# EAGLE library part GMSTBV2.5-7-* (library Phoenix_GICV-GF)
Connector 7,62 mm, 400V 12A, 7 polig, Version GF mit Befestigungsblock!
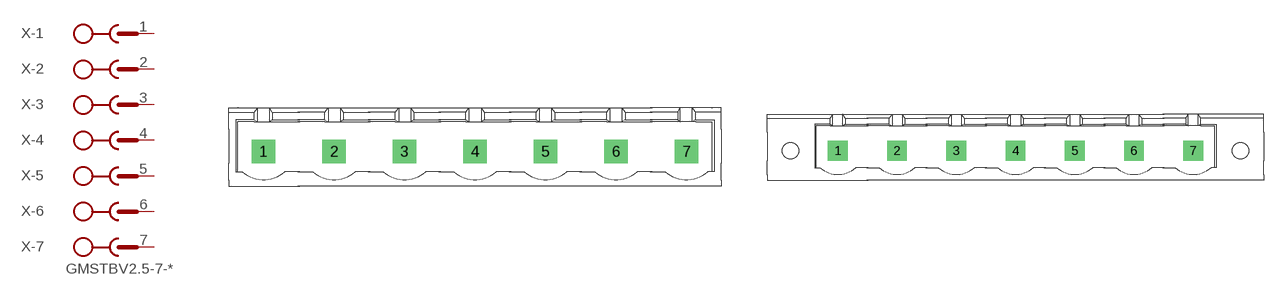
[diagram p11: symbol with the pads of GMSTBV2.5-7-G; footprints GMSTBV2.5-7-G, GMSTBV2.5-7-GF]

Designator prefix X; gates -1=SK -2=SK -3=SK -4=SK -5=SK -6=SK -7=SK+V

## GMSTBV2.5-7-G  [GMSTBV2.5-7-G]
1  -1:SK  pas
2  -2:SK  pas
3  -3:SK  pas
4  -4:SK  pas
5  -5:SK  pas
6  -6:SK  pas
7  -7:SK  pas

## GMSTBV2.5-7-GF  [GMSTBV2.5-7-GF]
Pads as for GMSTBV2.5-7-G

## Footprint GMSTBV2.5-7-G (pad centres in mm)
Connector 7,62 mm, 7 polig, ohne Befestigungsblock
drill 1.3 pad 2.54 square: 1 0,0; 2 7.62,0; 3 15.24,0; 4 22.86,0; 5 30.48,0; 6 38.1,0; 7 45.72,0

## Footprint GMSTBV2.5-7-GF (pad centres in mm)
Connector 7,62 mm, 7 polig, mit Befestigungsblock!
drill 1.3 pad 2.54 square: 1 0,0; 2 7.62,0; 3 15.24,0; 4 22.86,0; 5 30.48,0; 6 38.1,0; 7 45.72,0
hole 2.1 at -6.1,0
hole 2.1 at 51.82,0